# Altium footprint library РЭС55.PcbLib: 1 footprints
Each footprint in its own frame and in the unit in brackets; x right, y up, seen from the top. Pads: shape width x height; smd on the part's side, far side on the other; paste and mask are expansions set on the pad; w line width, h text height; cw(c..) or ccw(c..) is an arc to the next point about the centre after c.
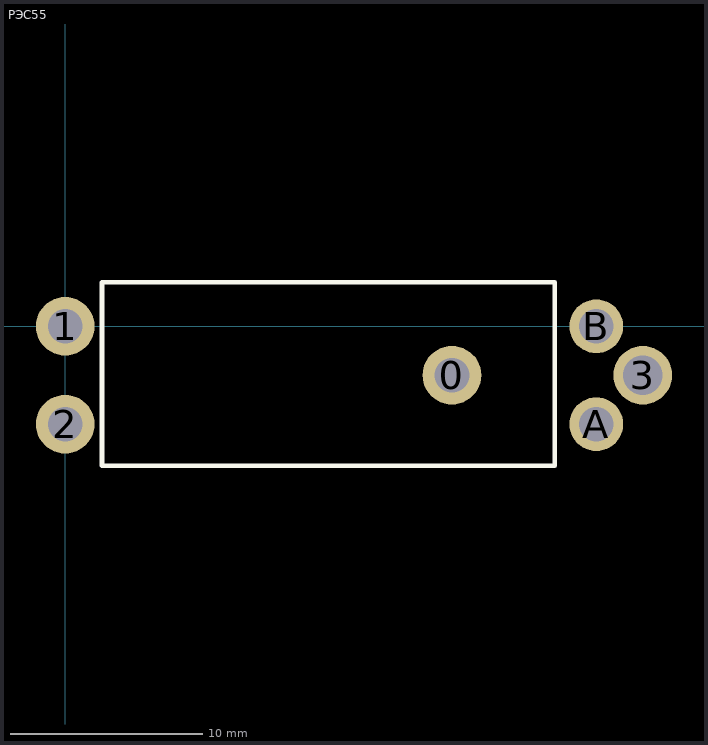
[diagram p0: the footprint, top view; thin cyan lines are the x and y axes]

## РЭС55 [mil]
pads (6):
  round 120 hole 71: 0(790,-100) 1(0,0) 2(0,-200)
  round 120 hole 80: 3(1180,-100)
  round 110 hole 71: A(1085,-200) B(1085,0)
Top Overlay:
  lines w10: 75,-285 75,90 1000,90 1000,-285 75,-285
3D body: height 211, standoff -80, extent 765.14,-125 812.95,-77.09
3D body: height 211, standoff -80, extent -24.72,-19.93 23.09,27.97
3D body: height 211, standoff -80, extent 765.28,-119.93 813.09,-72.03
3D body: height 220, standoff -80, extent 1157.19,-123.95 1205,-76.05
3D body: height 211, standoff -80, extent 1060.28,-19.93 1108.09,27.97
3D body: height 211, standoff -80, extent 1060.14,-220 1107.95,-172.09
3D body: height 211, standoff -80, extent -24.72,-219.93 23.09,-172.03
3D body: height 372.53, standoff 0, extent -30,-285 1112,88.26
3D body: height 223.81, standoff 176, extent 1100,-125 1180,-77.09